# Altium schematic symbol library Plug_.SchLib: 7 symbols
Pins are listed as number, name and electrical type; pins without a type are passive.

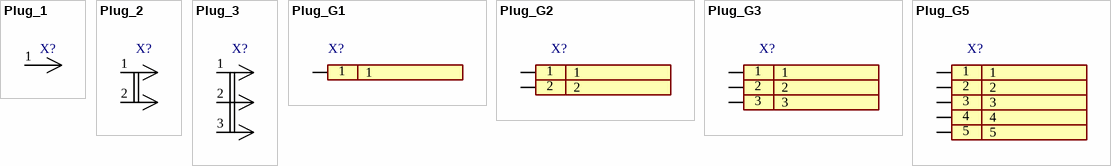
[diagram p0: symbols Plug_1 to Plug_G5]

## Plug_1
designator X?  (value not drawn)
Plug
pins: 1

## Plug_2
designator X?  (value not drawn)
Plug
pins: 1, 2

## Plug_3
designator X?  (value not drawn)
Plug
pins: 1, 2, 3

## Plug_G1
designator X?  (value not drawn)
Plug
pins: 1

## Plug_G2
designator X?  (value not drawn)
Plug
pins: 1, 2

## Plug_G3
designator X?  (value not drawn)
Plug; Value: *; Catalog number: *; Catalog: *
pins: 1, 2, 3

## Plug_G5
designator X?, comment Plug  (value not drawn)
Value: *; Catalog number: *; Catalog: *
pins: 1, 2, 3, 4, 5